# Altium footprint library TVR.PcbLib: 3 footprints
Each footprint in its own frame and in the unit in brackets; x right, y up, seen from the top. Pads: shape width x height; smd on the part's side, far side on the other; paste and mask are expansions set on the pad; w line width, h text height; cw(c..) or ccw(c..) is an arc to the next point about the centre after c.
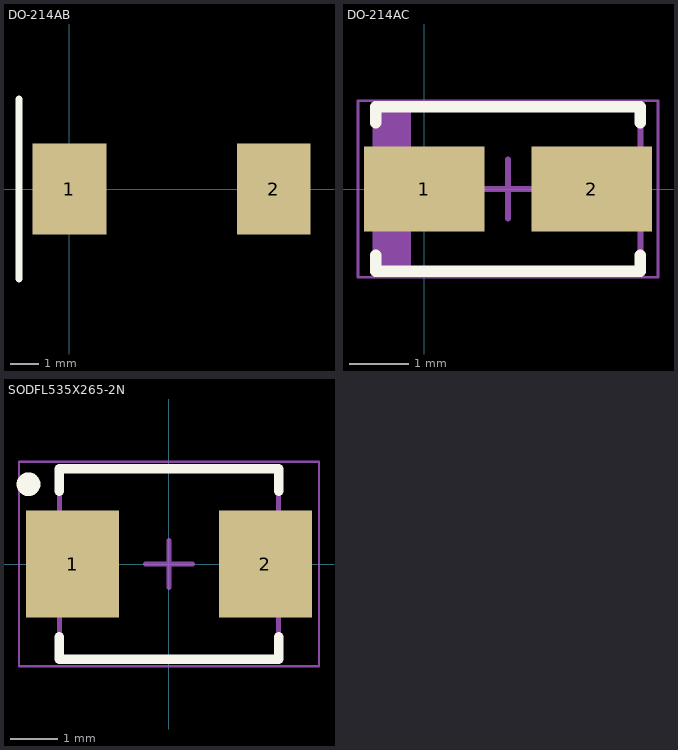
[diagram p0: the footprints below, top view; thin cyan lines are the x and y axes]

## DO-214AB [mm]
pads (2):
  rect 2.6x3.2 smd: 1(0,0) 2(7.2,0)
Top Overlay:
  lines w0.254: -1.778,-3.175 -1.778,3.175
3D body "DO-214AB.STEP": height 2.94, standoff 0.01, extent -0.469,-3.075 7.581,3.175

## DO-214AC [mm] "TVR  DO-214AC"
pads (2):
  rect 2.05x1.45 smd: 1(0,0) 2(2.85,0)
Top Overlay:
  lines w0.2: -0.825,-1.125 -0.825,-1.4 3.675,-1.4 3.675,-1.125 ; -0.825,1.125 -0.825,1.4 3.675,1.4 3.675,1.125
Mechanical 13:
  rectangle: -0.825,-1.395 -0.22,1.395
  lines w0.1: -0.825,-1.395 3.675,-1.395 3.675,1.395 -0.825,1.395 -0.825,-1.395
Mechanical 15:
  lines w0.05: -1.125,-1.5 3.975,-1.5 3.975,1.5 -1.125,1.5 -1.125,-1.5
  lines w0.1: 0.925,0 1.925,0 ; 1.425,-0.5 1.425,0.5
3D body: height 2.29, standoff 0, extent -0.825,-1.395 3.675,1.395

## SODFL535X265-2N [mm] "SODFL, 2-Leads, Body 3.63x5.35mm, IPC Medium Density"
height 2.65
pads (2):
  rect 1.95x2.25 smd: 1(-2.025,0) 2(2.025,0)
Top Overlay:
  circle w0.25: c-2.95,1.675 r0.125
  lines w0.2: -2.3,-1.525 -2.3,-2 2.3,-2 2.3,-1.525 ; -2.3,1.525 -2.3,2 2.3,2 2.3,1.525
Mechanical 13:
  lines w0.1: -2.3,-1.975 -2.3,1.975 2.3,1.975 2.3,-1.975 -2.3,-1.975
Mechanical 15:
  lines w0.05: -3.15,-2.15 -3.15,2.15 3.15,2.15 3.15,-2.15 -3.15,-2.15
  lines w0.1: -0.5,0 0.5,0 ; 0,-0.5 0,0.5
3D body "SODFL535X265-2N.step": height 2.65, standoff 0, extent -2.675,-1.975 2.675,1.975